# Altium footprint library Simcom.PcbLib: 1 footprints
Each footprint in its own frame and in the unit in brackets; x right, y up, seen from the top. Pads: shape width x height; smd on the part's side, far side on the other; paste and mask are expansions set on the pad; w line width, h text height; cw(c..) or ccw(c..) is an arc to the next point about the centre after c.
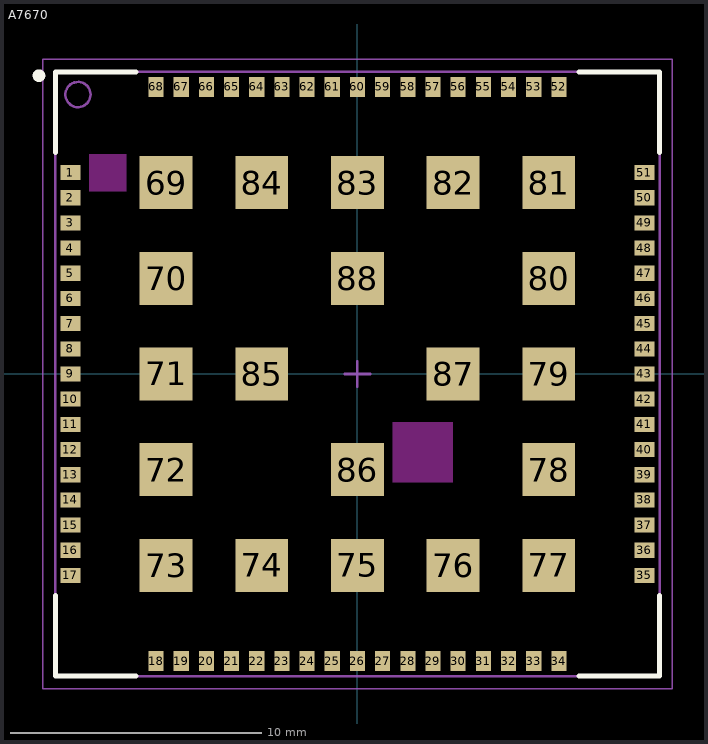
[diagram p0: the footprint, top view; thin cyan lines are the x and y axes]

## A7670 [mm] "PQFN, 68-Leads, Body 24,00x24,00mm, Pitch 1,00mm, IPC Low Density"
height 2.5
pads (88):
  rect 0.8x0.6 smd: 1(-11.4,8) 2(-11.4,7) 3(-11.4,6) 4(-11.4,5) 5(-11.4,4) 6(-11.4,3) 7(-11.4,2) 8(-11.4,1) 9(-11.4,0) 10(-11.4,-1) 11(-11.4,-2) 12(-11.4,-3) 13(-11.4,-4) 14(-11.4,-5) 15(-11.4,-6) 16(-11.4,-7) 17(-11.4,-8) 35(11.4,-8) 36(11.4,-7) 37(11.4,-6) 38(11.4,-5) 39(11.4,-4) 40(11.4,-3) 41(11.4,-2) 42(11.4,-1) 43(11.4,0) 44(11.4,1) 45(11.4,2) 46(11.4,3) 47(11.4,4) 48(11.4,5) 49(11.4,6) 50(11.4,7) 51(11.4,8)
  rect 0.6x0.8 smd: 18(-8,-11.4) 19(-7,-11.4) 20(-6,-11.4) 21(-5,-11.4) 22(-4,-11.4) 23(-3,-11.4) 24(-2,-11.4) 25(-1,-11.4) 26(0,-11.4) 27(1,-11.4) 28(2,-11.4) 29(3,-11.4) 30(4,-11.4) 31(5,-11.4) 32(6,-11.4) 33(7,-11.4) 34(8,-11.4) 52(8,11.4) 53(7,11.4) 54(6,11.4) 55(5,11.4) 56(4,11.4) 57(3,11.4) 58(2,11.4) 59(1,11.4) 60(0,11.4) 61(-1,11.4) 62(-2,11.4) 63(-3,11.4) 64(-4,11.4) 65(-5,11.4) 66(-6,11.4) 67(-7,11.4) 68(-8,11.4)
  rect 2.1x2.1 smd: 69(-7.6,7.6) 70(-7.6,3.8) 71(-7.6,0) 72(-7.6,-3.8) 73(-7.6,-7.6) 74(-3.8,-7.6) 75(0,-7.6) 76(3.8,-7.6) 77(7.6,-7.6) 78(7.6,-3.8) 79(7.6,0) 80(7.6,3.8) 81(7.6,7.6) 82(3.8,7.6) 83(0,7.6) 84(-3.8,7.6) 85(-3.8,0) 86(0,-3.8) 87(3.8,0) 88(0,3.8)
Top Layer keep-out:
  rectangle: 1.397,-4.305 3.797,-1.905
  rectangle: -10.668,7.239 -9.168,8.739
Top Overlay:
  circle w0.25: c-12.65,11.85 r0.125
  lines w0.2: -12,-8.8 -12,-12 -8.8,-12 ; -12,8.8 -12,12 -8.8,12 ; 8.8,-12 12,-12 12,-8.8 ; 8.8,12 12,12 12,8.8
Mechanical 13:
  circle w0.1: c-11.1,11.1 r0.5
  lines w0.1: -12,-12 -12,12 12,12 12,-12 -12,-12
Mechanical 15:
  lines w0.05: -12.5,-12.5 -12.5,12.5 12.5,12.5 12.5,-12.5 -12.5,-12.5
  lines w0.1: -0.5,0 0.5,0 ; 0,-0.5 0,0.5
3D body "SIM_COM_A7670.stp": height 2.8, standoff 0, extent -12,-12 12,12